# Altium schematic symbol library SCH_Lib.SchLib: 3 symbols
Pins are listed as number, name and electrical type; pins without a type are passive.

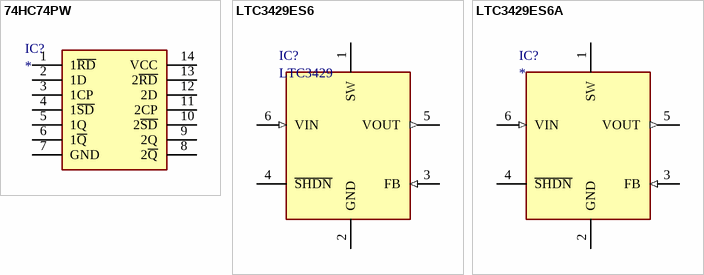
[diagram p0: symbols 74HC74PW to LTC3429ES6A]

## 74HC74PW
designator IC?
Integrated Circuit; Manufacturer_Name: Nexperia; Manufacturer_Part_Number: 74HC74PW; Description: Dual D Flip Flop,pos edge trig TSSOP14 NXP 74HC74PW; Datasheet Link: http://www.nxp.com/documents/data_sheet/74HC_HCT74.pdf; Height: 1.1mm; Arrow Part Number: 74HC74PW; Mouser Part Number: 771-74HC74PW; Mouser Price/Stock: https://www.mouser.com/Search/Refine.aspx?Keyword=771-74HC74PW
footprint SOP65P640X110-14N
pins: 1 1~{RD}, 2 1D, 3 1CP, 4 1~{SD}, 5 1Q, 6 1~{Q}, 7 GND, 8 2~{Q}, 9 2Q, 10 2~{SD}, 11 2CP, 12 2D, 13 2~{RD}, 14 VCC

## LTC3429ES6
designator IC?, comment LTC3429
Boost Switching Regulator IC Positive Adjustable 2.5V 1 Output 600mA (Switch) SOT-23-6 Thin, TSOT-23-6
footprint SOT95P280X100-6N
pins: 1 SW, 2 GND (power), 3 FB (in), 4 ~{SHDN}, 5 VOUT (out), 6 VIN (in)

## LTC3429ES6A
designator IC?
Integrated Circuit; Manufacturer_Name: Linear Technology; Manufacturer_Part_Number: LTC3429ES6#TRMPBF; Datasheet Link: http://docs-emea.rs-online.com/webdocs/05ae/0900766b805aea82.pdf; Height: 1mm; Arrow Part Number: LTC3429ES6#TRMPBF; Arrow Price/Stock: https://www.arrow.com/en/products/ltc3429es6trmpbf/linear-technology; Mouser Part Number: 584-LTC3429ES6TRMPBF; Mouser Price/Stock: https://www.mouser.com/Search/Refine.aspx?Keyword=584-LTC3429ES6TRMPBF
footprint SOT95P280X100-6N
pins: 1 SW, 2 GND (power), 3 FB (in), 4 ~{SHDN}, 5 VOUT (out), 6 VIN (in)